# Altium schematic symbol library I2C_Shield.SchLib: 19 symbols
Pins are listed as number, name and electrical type; pins without a type are passive.

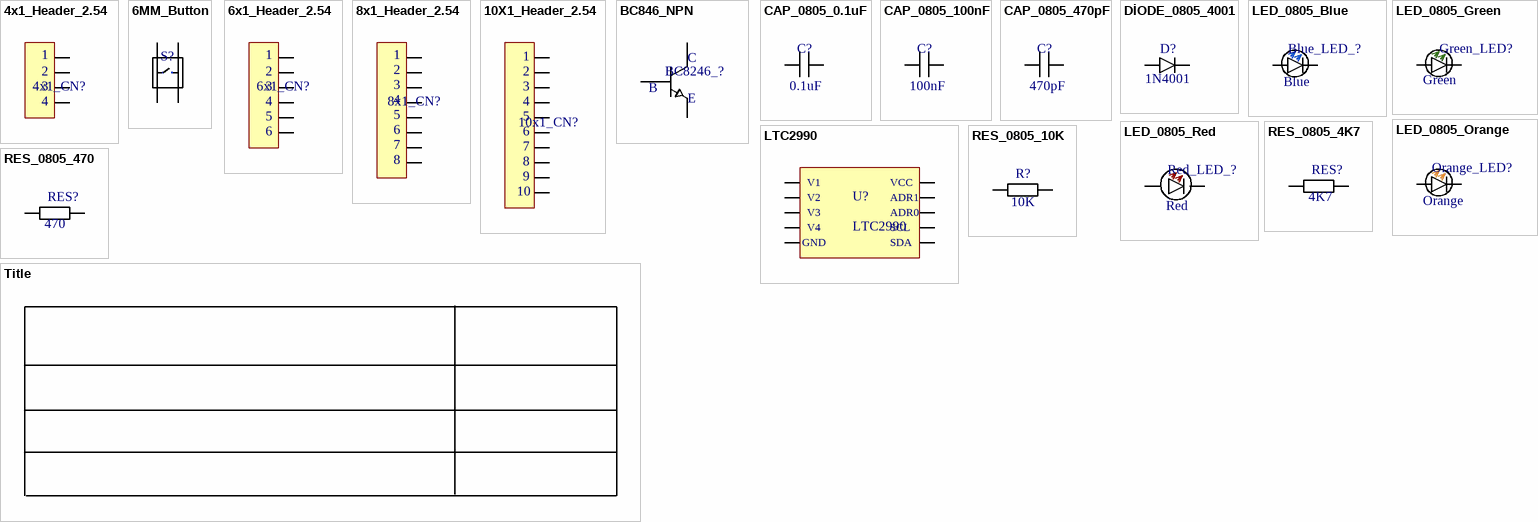
[diagram p0: symbols 4x1_Header_2.54 to Title]

## 4x1_Header_2.54
designator 4x1_CN?  (value not drawn)
footprint 4X1_HEADER
pins: 01, 02, 03, 04
text: 1; 2; 3; 4

## 6MM_Button
designator S?  (value not drawn)
footprint BUTTON
pins: 1, 2, 3, 4

## 6x1_Header_2.54
designator 6x1_CN?  (value not drawn)
footprint 6X1_HEADER
pins: 01, 02, 03, 04, 05, 06
text: 1; 2; 3; 4; 5; 6

## 8x1_Header_2.54
designator 8x1_CN?  (value not drawn)
footprint 8x1_HEADER
pins: 01, 02, 03, 04, 05, 06, 07, 08
text: 1; 2; 3; 4; 5; 6; 7; 8

## 10X1_Header_2.54
designator 10x1_CN?  (value not drawn)
footprint 10X1_HEADER
pins: 01, 02, 03, 04, 05, 06, 07, 08, 09, 10
text: 1; 2; 3; 4; 5; 6; 7; 8; 9

## BC846_NPN
designator BC8246_?  (value not drawn)
pins: 0, 1, 2
text: C; B; E

## CAP_0805_0.1uF
designator C?  (value not drawn)
footprint CAP_0805
pins: 1, 2
text: 0.1uF

## CAP_0805_100nF
designator C?, comment CAP_0805_100nF*  (value not drawn)
footprint CAP_0805
pins: 1, 2
text: 100nF

## CAP_0805_470pF
designator C?  (value not drawn)
footprint CAP_0805
pins: 1, 2
text: 470pF

## DİODE_0805_4001
designator D?  (value not drawn)
pins: 0, 1
text: 1N4001

## LED_0805_Blue
designator Blue_LED_?  (value not drawn)
footprint LED_0805
pins: A, C
text: Blue

## LED_0805_Green
designator Green_LED?  (value not drawn)
footprint LED_0805
pins: A, C
text: Green

## LED_0805_Orange
designator Orange_LED?  (value not drawn)
footprint LED_0805
footprint LED_0805
pins: A, C
text: Orange

## LED_0805_Red
designator Red_LED_?  (value not drawn)
footprint LED_0805
pins: A, C
text: Red

## LTC2990
designator U?
pins: 1, 2, 3, 4, 5, 6, 7, 8, 9, 10
text: V1; VCC; V2; ADR1; V3; ADR0; V4; SCL; GND; SDA

## RES_0805_4K7
designator RES?  (value not drawn)
footprint RES_0805 (Chip Resistor, 2-Leads, Body 2,00x1,25mm, IPC Medium Density)
pins: 1, 2
text: 4K7

## RES_0805_10K
designator R?  (value not drawn)
0805 10K Ohms 5% 1/8W 100PPM SMT
footprint RES_0805 (Chip Resistor, 2-Leads, Body 2,00x1,25mm, IPC Medium Density)
pins: 1, 2
text: 10K

## RES_0805_470
designator RES?  (value not drawn)
footprint RES_0805 (Chip Resistor, 2-Leads, Body 2,00x1,25mm, IPC Medium Density)
pins: 1, 2
text: 470

## Title
designator *  (value not drawn)  (graphical)